# EAGLE library part CON-JST-ZH_S11B-ZR (library con-jst-zh)
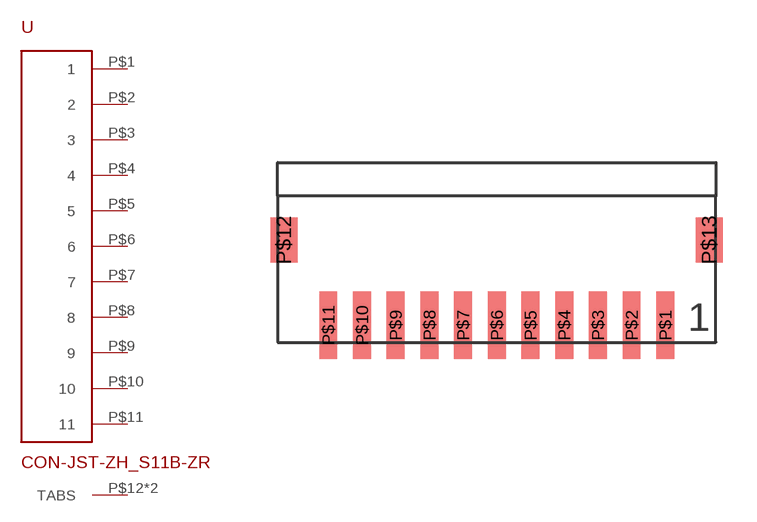
[diagram p0: symbol with the pads of CON-JST-ZH_SMD_11A; footprint CON-JST-ZH_SMD_11A]

Designator prefix -

## CON-JST-ZH_S11B-ZR-SM4A  [CON-JST-ZH_SMD_11A]
P$1  1  pas
P$2  2  pas
P$3  3  pas
P$4  4  pas
P$5  5  pas
P$6  6  pas
P$7  7  pas
P$8  8  pas
P$9  9  pas
P$10  10  pas
P$11  11  pas
P$12  TABS  pas
P$13  TABS  pas

## Footprint CON-JST-ZH_SMD_11A (pad centres in mm)
smd 0.8 x 3: P$1 0,0.75; P$2 -1.5,0.75; P$3 -3,0.75; P$4 -4.5,0.75; P$5 -6,0.75; P$6 -7.5,0.75; P$7 -9,0.75; P$8 -10.5,0.75; P$9 -12,0.75; P$10 -13.5,0.75; P$11 -15,0.75
smd 1.2 x 2: P$12 -16.97,4.555; P$13 1.96,4.555